# EAGLE library part 284391-6 (library LTM4607)
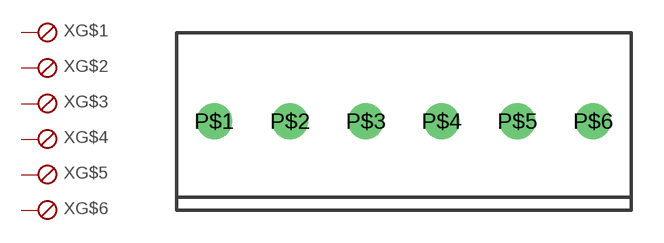
[diagram p7: symbol with the pads of 284391-6; footprint 284391-6]

Designator prefix X; gates G$1=SKB G$2=SKB G$3=SKB G$4=SKB G$5=SKB G$6=SKB

## 284391-6  [284391-6]
P$1  G$1:1  pas
P$2  G$2:1  pas
P$3  G$3:1  pas
P$4  G$4:1  pas
P$5  G$5:1  pas
P$6  G$6:1  pas

## Footprint 284391-6 (pad centres in mm)
drill 1.1: P$1 -8.75,0; P$2 -5.25,0; P$3 -1.75,0; P$4 1.75,0; P$5 5.25,0; P$6 8.75,0